# Altium footprint library SO8-SPE-MBR5100MFS.PcbLib: 1 footprints
Each footprint in its own frame and in the unit in brackets; x right, y up, seen from the top. Pads: shape width x height; smd on the part's side, far side on the other; paste and mask are expansions set on the pad; w line width, h text height; cw(c..) or ccw(c..) is an arc to the next point about the centre after c.
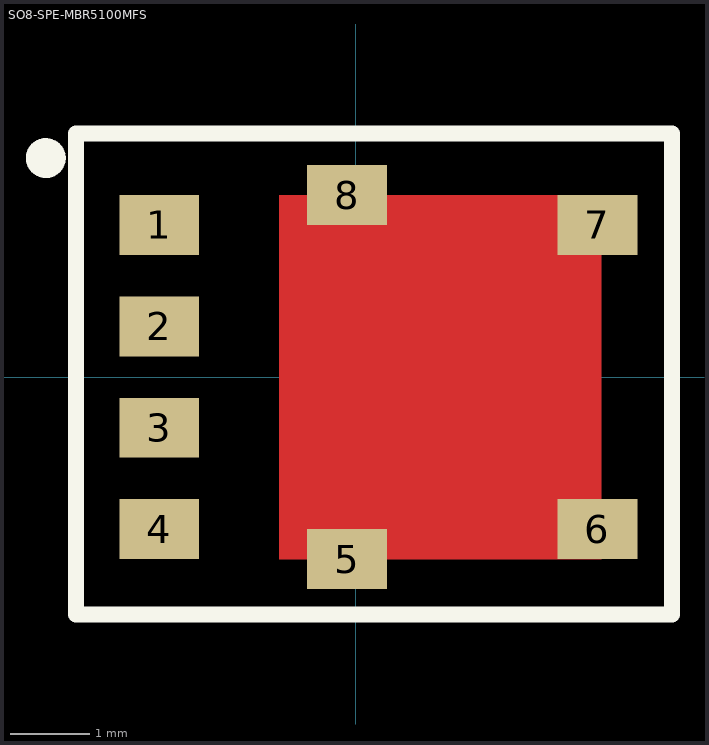
[diagram p0: the footprint, top view; thin cyan lines are the x and y axes]

## SO8-SPE-MBR5100MFS [mm]
pads (8):
  rect 1x0.75 smd: 1(-2.464,1.905) 2(-2.464,0.635) 3(-2.464,-0.635) 4(-2.464,-1.905) 5(-0.11,-2.28) 6(3.026,-1.905) 7(3.026,1.905) 8(-0.11,2.28)
Top Layer:
  region: -0.96,2.28 -0.96,-2.28 3.075,-2.28 3.075,2.28
Top Overlay:
  circle w0.25: c-3.884,2.743 r0.125
  lines w0.2: -3.505,-2.972 3.962,-2.972 3.962,3.048 -3.505,3.048 -3.505,-2.972
Top Solder:
  region: -0.96,2.28 -0.96,-2.28 3.075,-2.28 3.075,2.28
3D body: height 1.73, standoff -0.04, extent -2.738,-2.413 3.399,2.477